# Altium schematic symbol library SN65LVDT2DBV.SchLib: 1 symbol
Pins are listed as number, name and electrical type; pins without a type are passive.

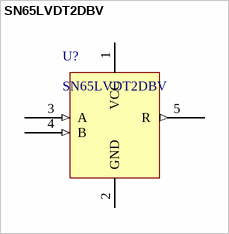
[diagram p0: symbol SN65LVDT2DBV]

## SN65LVDT2DBV
designator U?
pins: 1 VCC (power), 2 GND (power), 3 A (in), 4 B (in), 5 R (out)